# EAGLE library part SATAPWR (library SATA_Power)
Conn SATA RCP 22 POS 1.27mm Solder RA SMD 22 Terminal 1 Port Tray Check availability <https://pricing.snapeda.com/parts/2023246-2/TE%20Connectivity/view-part?ref=eda>
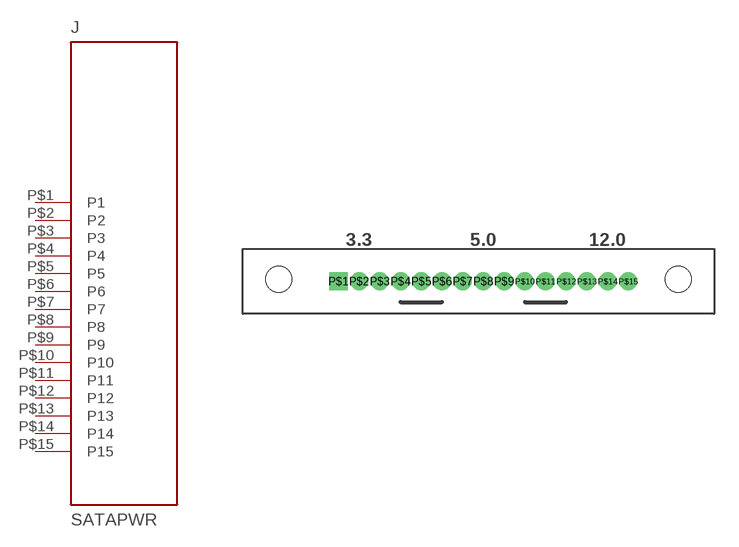
[diagram p0: symbol with the pads of PTH_90; footprint PTH_90]

Designator prefix J

## SATAPWR  [PTH_90]
P$1  P1  pas
P$2  P2  pas
P$3  P3  pas
P$4  P4  pas
P$5  P5  pas
P$6  P6  pas
P$7  P7  pas
P$8  P8  pas
P$9  P9  pas
P$10  P10  pas
P$11  P11  pas
P$12  P12  pas
P$13  P13  pas
P$14  P14  pas
P$15  P15  pas

## Footprint PTH_90 (pad centres in mm)
drill 0.6 pad 1.016 square: P$1 0,0
drill 0.6 pad 1.016: P$2 1.27,0; P$3 2.54,0; P$5 5.08,0; P$7 7.62,0; P$8 8.89,0; P$9 10.16,0; P$11 12.7,0; P$13 15.24,0; P$14 16.51,0; P$15 17.78,0
drill 0.6 pad 0.889: P$4 3.81,0; P$6 6.35,0; P$10 11.43,0; P$12 13.97,0
hole 1.6 at 20.84,0.13
hole 1.6 at -3.66,0.13